# Altium footprint library m20048.PcbLib: 1 footprints
Each footprint in its own frame and in the unit in brackets; x right, y up, seen from the top. Pads: shape width x height; smd on the part's side, far side on the other; paste and mask are expansions set on the pad; w line width, h text height; cw(c..) or ccw(c..) is an arc to the next point about the centre after c.
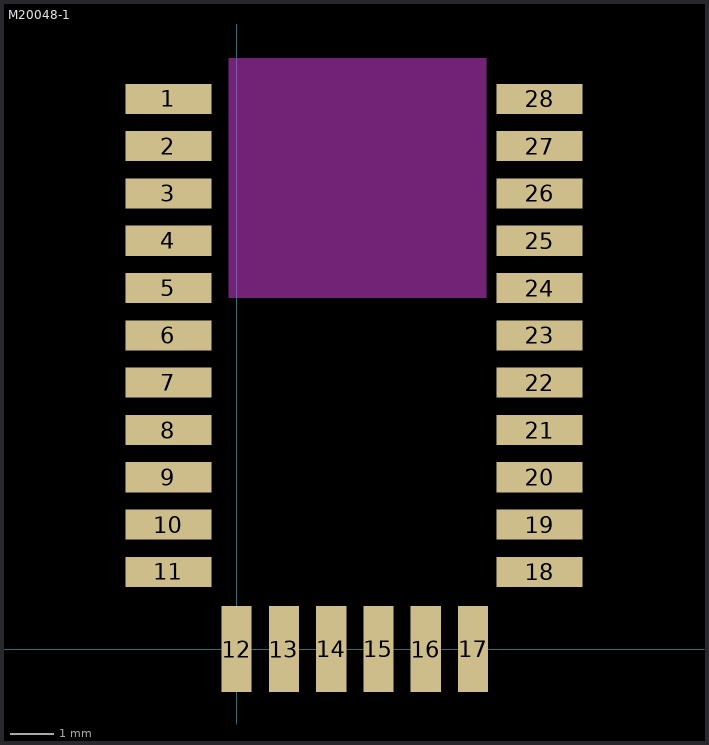
[diagram p0: the footprint, top view; thin cyan lines are the x and y axes]

## M20048-1 [mm]
pads (28):
  rect 2x0.7 smd: 1(-1.59,12.806) 2(-1.59,11.704) 3(-1.59,10.604) 4(-1.59,9.504) 5(-1.59,8.4) 6(-1.59,7.302) 7(-1.59,6.202) 8(-1.59,5.1) 9(-1.59,4) 10(-1.59,2.9) 11(-1.59,1.8) 18(7.05,1.8) 19(7.05,2.9) 20(7.05,4) 21(7.05,5.1) 22(7.05,6.202) 23(7.05,7.302) 24(7.05,8.4) 25(7.05,9.504) 26(7.05,10.604) 27(7.05,11.704) 28(7.05,12.806)
  rect 0.7x2 smd: 12(0,0) 13(1.1,0) 14(2.2,0) 15(3.3,0) 16(4.4,0) 17(5.5,0)
Top Layer keep-out:
  rectangle: -0.19,8.172 5.81,13.76